# Altium schematic symbol library SMD_inductors.SchLib: 1 symbol
Pins are listed as number, name and electrical type; pins without a type are passive.

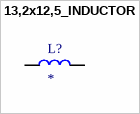
[diagram p0: symbol 13,2x12,5_INDUCTOR]

## 13,2x12,5_INDUCTOR
designator L?
footprint 13,2x12,5_INDUCTOR (Precision Wire Wound Inductor, 2-Leads, Body 13,20x12,50mm, IPC Low Density)
pins: 1, 2